# Altium schematic symbol library ME2-CO.SchLib: 1 symbol
Pins are listed as number, name and electrical type; pins without a type are passive.

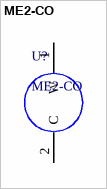
[diagram p0: symbol ME2-CO]

## ME2-CO
designator U?
pins: 1 W (power), 2 C